# Altium footprint library Transformer.PcbLib: 5 footprints
Each footprint in its own frame and in the unit in brackets; x right, y up, seen from the top. Pads: shape width x height; smd on the part's side, far side on the other; paste and mask are expansions set on the pad; w line width, h text height; cw(c..) or ccw(c..) is an arc to the next point about the centre after c.
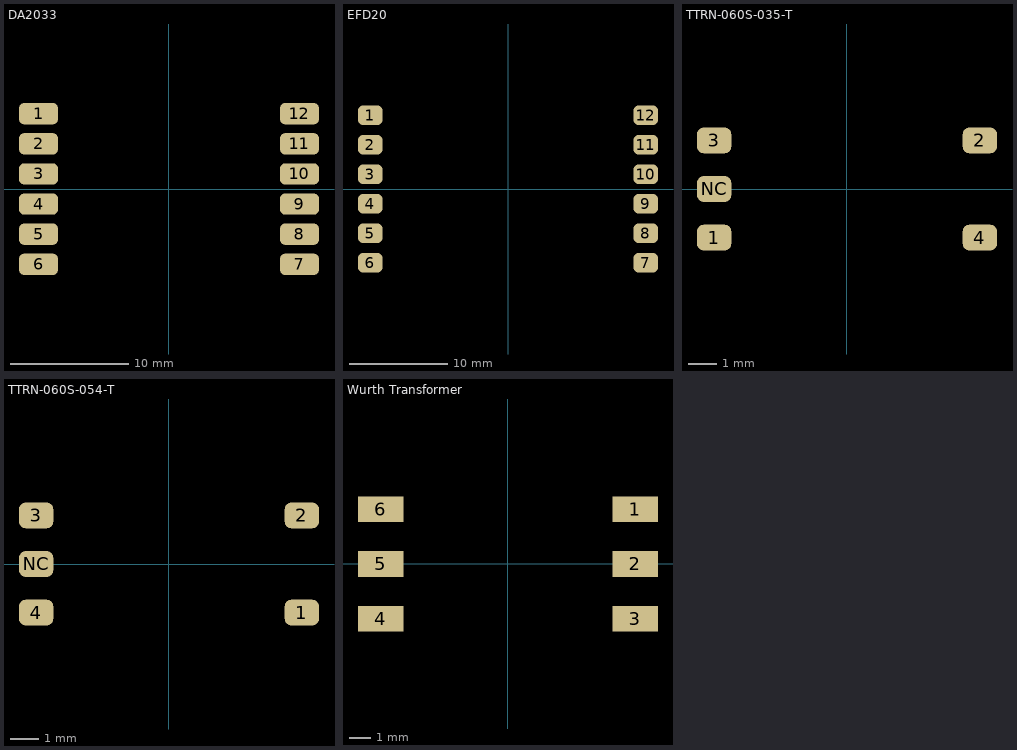
[diagram p0: the footprints below, top view; thin cyan lines are the x and y axes]

## DA2033 [mm]
pads (12):
  rrect50% 3.3x1.8 smd: 1(-11,6.35) 2(-11,3.81) 3(-11,1.27) 4(-11,-1.27) 5(-11,-3.81) 6(-11,-6.35) 7(11,-6.35) 8(11,-3.81) 9(11,-1.27) 10(11,1.27) 11(11,3.81) 12(11,6.35)
3D body "Coilcraft-DA2033-AL.STEP": height 9.2, standoff -0.4, extent -12.143,-8.7 11.987,8.7

## EFD20 [mm]
pads (12):
  rrect50% 2.5x2 smd: 1(-14,7.5) 2(-14,4.5) 3(-14,1.5) 4(-14,-1.5) 5(-14,-4.5) 6(-14,-7.5) 7(14,-7.5) 8(14,-4.5) 9(14,-1.5) 10(14,1.5) 11(14,4.5) 12(14,7.5)
3D body "45844.stp": height 10.75, standoff -0.05, extent -14.907,-10.493 14.593,10.507

## TTRN-060S-035-T [mm]
pads (5):
  rrect50% 1.2x0.9 smd: 1(-4.65,-1.7) 2(4.65,1.7) 3(-4.65,1.7) 4(4.65,-1.7) NC(-4.65,0)
3D body "TTRN-060S-035-T.step": height 5.5, standoff 0, extent -5.275,-3.15 5.325,3.65

## TTRN-060S-054-T [mm]
pads (5):
  rrect50% 1.2x0.9 smd: 1(4.65,-1.7) 2(4.65,1.7) 3(-4.65,1.7) 4(-4.65,-1.7) NC(-4.65,0)
3D body "TTRN-060S-035-T.step": height 5.5, standoff 0, extent -5.275,-3.15 5.325,3.65

## Wurth Transformer [mm] "750312367"
pads (6):
  rect 2.08x1.17 smd: 1(5.83,2.5) 2(5.83,0) 3(5.83,-2.5) 4(-5.83,-2.5) 5(-5.83,0) 6(-5.83,2.5)
3D body "User Library-wurthTransformer750312365.STEP": height 8.49, standoff -0.14, extent -6.7,-5.03 6.66,5.13